# EAGLE library part USB-B (library halcyonmod_Connectors)
USB "B" Type Device
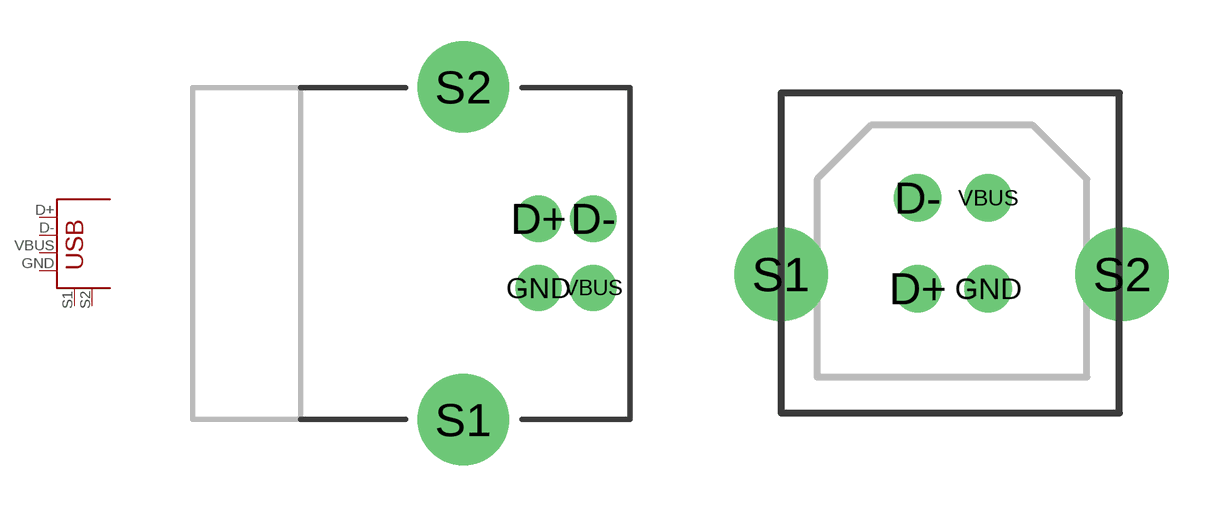
[diagram p8: symbol with the pads of USB-B-PTH; footprints USB-B-PTH, USB-B-PTH-VERTICAL]

Designator prefix PJ

## USB-B-PTH  [USB-B-PTH]
D+  D+
D-  D-
GND  GND
S1  S1
S2  S2
VBUS  VBUS

## USB-B-PLANAR  [USB-B-PTH-VERTICAL]
Pads as for USB-B-PTH

## USB-B-SMD-MINI  [USB-B-SMD-MINI]
Pads as for USB-B-PTH

## Footprint USB-B-PTH (pad centres in mm)
USB Series B Hole Mounted
drill 0.914 pad 1.676: D+ 0,1.25; D- 1.981,1.25; GND 0,-1.25; VBUS 1.981,-1.25
drill 2.286: S1 -2.718,-6.02; S2 -2.718,6.02

## Footprint USB-B-PTH-VERTICAL (pad centres in mm)
USB Series B Hole Mounted
drill 0.914 pad 1.676: D+ -1.274,-1.706; D- -1.274,1.495; GND 1.215,-1.706; VBUS 1.215,1.495
drill 2.286: S1 -6.1,-1.198; S2 5.94,-1.198

## Footprint USB-B-SMD-MINI (pad centres in mm)
USB Series Mini-B Surface Mounted
smd 2.5 x 0.5: D+ 2.5,0; D- 2.5,0.8; GND 2.5,-1.6; ID 2.5,-0.8; VBUS 2.5,1.6
smd 2.5 x 2: S1 2.5,4.5; S2 2.5,-4.5; S3 -3,4.5; S4 -3,-4.5
hole 0.9 at 0,2.2
hole 0.9 at 0,-2.2